# Altium schematic symbol library Regulator_Switching.SchLib: 1279 symbols (part 1 of 14)
Pins are listed as number, name and electrical type; pins without a type are passive.

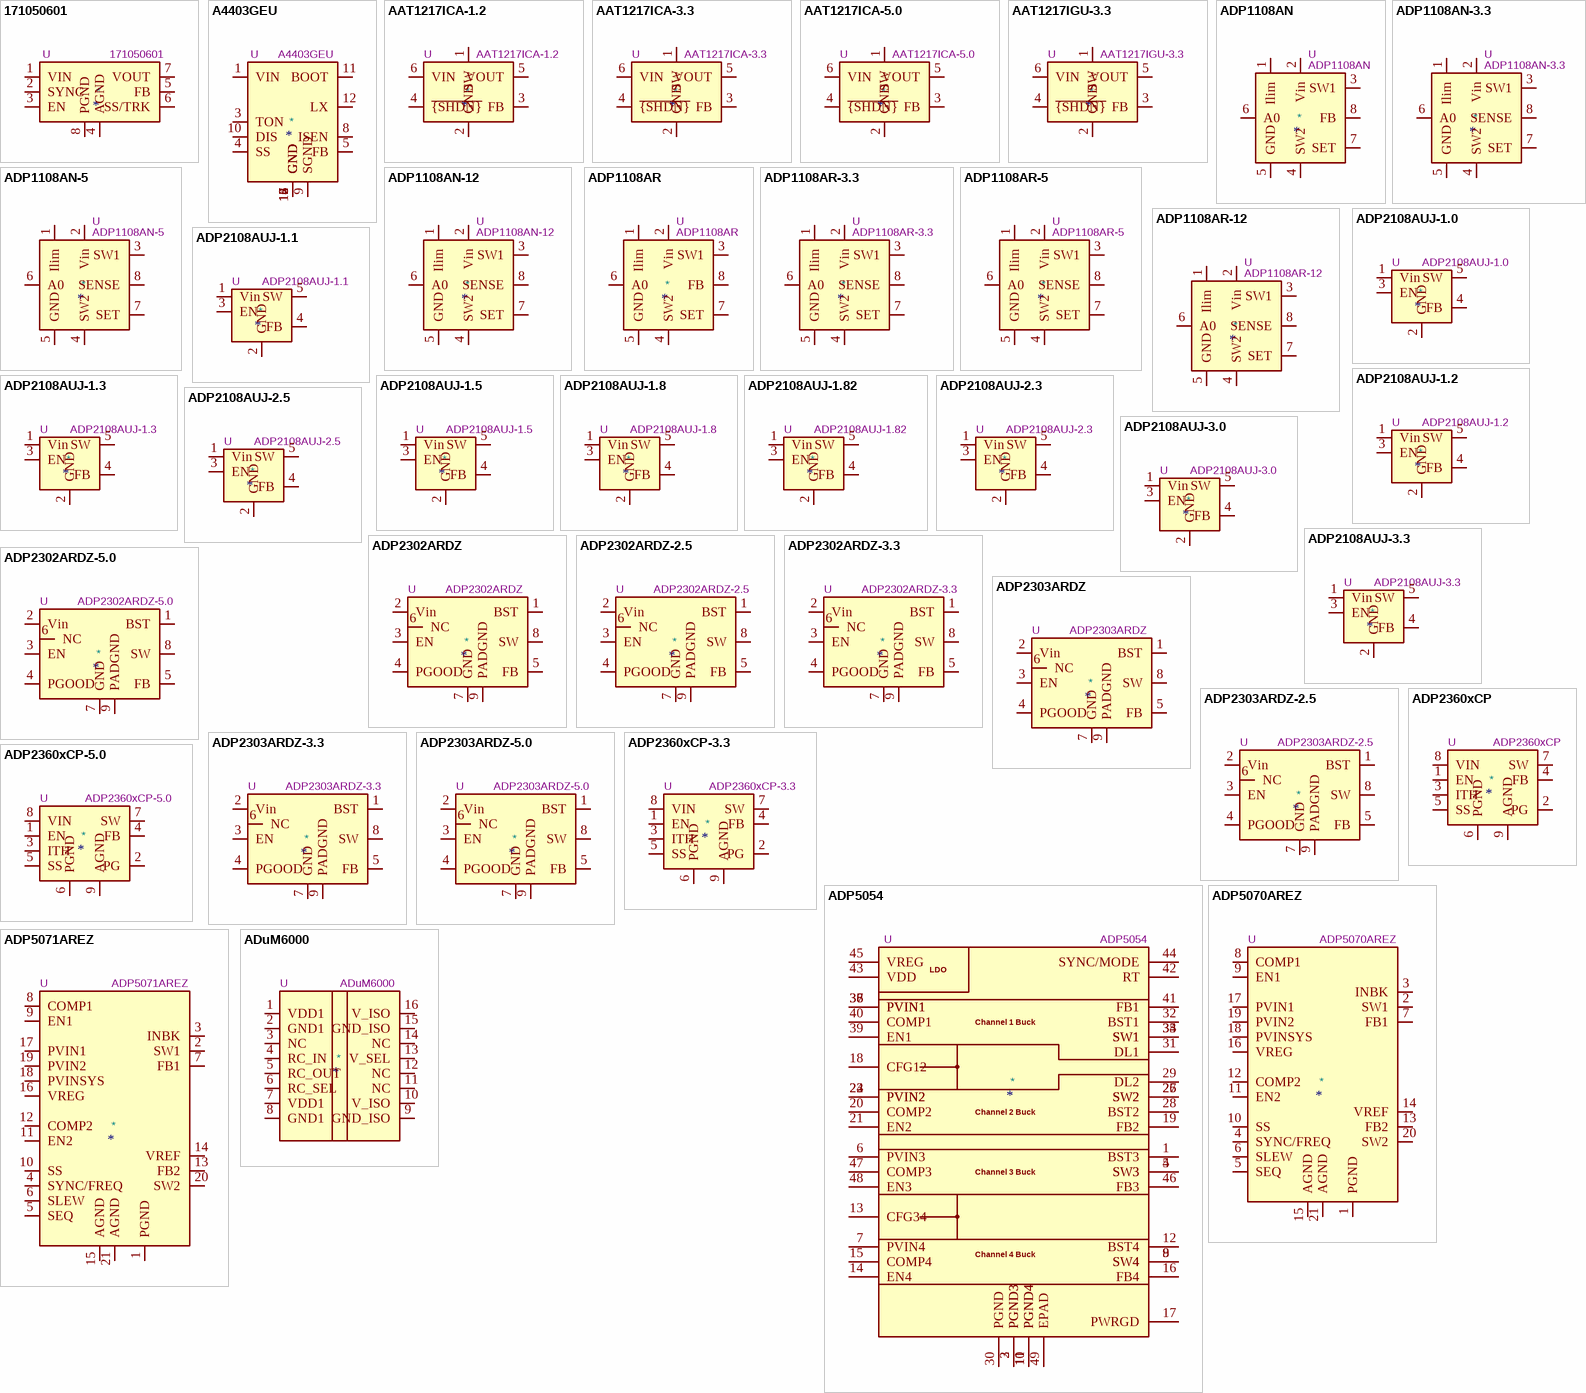
[diagram p0: symbols 171050601 to ADuM6000]

## 171050601
designator *  value 171050601  Reference: U
MagI3C Power Module, Variable Step Down Regulator Module, 6 to 36V Input Voltage, 0.8 to 6V, 5A Output, TO-263; ki_keywords: power module regulator; ki_fp_filters: TO*263*TabPin8*; Footprint: Package_TO_SOT_SMD:TO-263-7_TabPin8; Datasheet: https://katalog.we-online.de/pm/datasheet/171050601.pdf; Description_: MagI3C Power Module, Variable Step Down Regulator Module, 6 to 36V Input Voltage, 0.8 to 6V, 5A Output, TO-263
pins: 1 VIN, 2 SYNC, 3 EN, 4 AGND, 5 FB, 6 SS/TRK, 7 VOUT, 8 PGND

## A4403GEU
designator *  value A4403GEU  Reference: U
Valley current mode buck converter, 46V, 3A, up to 2MHz, QFN-16; ki_keywords: buck regulator adjustable; ki_fp_filters: QFN*1EP*4x4mm*P0.65mm*EP2.7x2.7mm*; Footprint: Package_DFN_QFN:QFN-16-1EP_4x4mm_P0.65mm_EP2.7x2.7mm; Datasheet: https://www.allegromicro.com/~/media/Files/Datasheets/A4403-Datasheet.ashx; Description_: Valley current mode buck converter, 46V, 3A, up to 2MHz, QFN-16
pins: 1 VIN, 2 GND, 3 TON, 4 SS, 5 FB, 6 GND, 7 GND, 8 ISEN, 9 SGND, 10 DIS, 11 BOOT, 12 LX, 13 GND, 14 GND, 15 GND, 16 GND, 17 GND

## AAT1217ICA-1.2
designator *  value AAT1217ICA-1.2  Reference: U
600mA, 2.5-5.5V, 1.2MHz, Micropower Synchronous Step-Up Converter, TSOT-23-6; ki_keywords: regulator step-up adjustable; ki_fp_filters: TSOT?23*; Footprint: Package_TO_SOT_SMD:TSOT-23-6; Datasheet: http://www.skyworksinc.com/uploads/documents/AAT1217_202050B.pdf; Description_: 600mA, 2.5-5.5V, 1.2MHz, Micropower Synchronous Step-Up Converter, TSOT-23-6
pins: 1 SW, 2 GND, 3 FB, 4 ~{{SHDN}}, 5 VOUT, 6 VIN

## AAT1217ICA-3.3
designator *  value AAT1217ICA-3.3  Reference: U
600mA, 3.3V, 1.2MHz, Micropower Synchronous Step-Up Converter, TSOT-23-6; ki_keywords: regulator step-up; ki_fp_filters: TSOT?23*; Footprint: Package_TO_SOT_SMD:TSOT-23-6; Datasheet: http://www.skyworksinc.com/uploads/documents/AAT1217_202050B.pdf; Description_: 600mA, 3.3V, 1.2MHz, Micropower Synchronous Step-Up Converter, TSOT-23-6
pins: 1 SW, 2 GND, 3 FB, 4 ~{{SHDN}}, 5 VOUT, 6 VIN

## AAT1217ICA-5.0
designator *  value AAT1217ICA-5.0  Reference: U
600mA, 5.0V, 1.2MHz, Micropower Synchronous Step-Up Converter, TSOT-23-6; ki_keywords: regulator step-up; ki_fp_filters: TSOT?23*; Footprint: Package_TO_SOT_SMD:TSOT-23-6; Datasheet: http://www.skyworksinc.com/uploads/documents/AAT1217_202050B.pdf; Description_: 600mA, 5.0V, 1.2MHz, Micropower Synchronous Step-Up Converter, TSOT-23-6
pins: 1 SW, 2 GND, 3 FB, 4 ~{{SHDN}}, 5 VOUT, 6 VIN

## AAT1217IGU-3.3
designator *  value AAT1217IGU-3.3  Reference: U
600mA, 3.3V, 1.2MHz, Micropower Synchronous Step-Up Converter, SOT-23-6; ki_keywords: regulator step-up; ki_fp_filters: SOT?23*; Footprint: Package_TO_SOT_SMD:SOT-23-6; Datasheet: http://www.skyworksinc.com/uploads/documents/AAT1217_202050B.pdf; Description_: 600mA, 3.3V, 1.2MHz, Micropower Synchronous Step-Up Converter, SOT-23-6
pins: 1 SW, 2 GND, 3 FB, 4 ~{{SHDN}}, 5 VOUT, 6 VIN

## ADP1108AN
designator *  value ADP1108AN  Reference: U
Micropower DC-DC converter, step-up or step-down operation, 2V-30Vin, adjustable output voltage, DIP-8; ki_keywords: switching buck boost converter step-down step-up; ki_fp_filters: DIP*W7.62mm*; Footprint: Package_DIP:DIP-8_W7.62mm; Datasheet: https://www.analog.com/media/en/technical-documentation/data-sheets/ADP1108.pdf; Description_: Micropower DC-DC converter, step-up or step-down operation, 2V-30Vin, adjustable output voltage, DIP-8
pins: 1 Ilim, 2 Vin, 3 SW1, 4 SW2, 5 GND, 6 A0, 7 SET, 8 FB

## ADP1108AN-3.3
designator *  value ADP1108AN-3.3  Reference: U
Micropower DC-DC converter, step-up or step-down operation, 2V-30Vin, 3.3V fixed output voltage, DIP-8; ki_keywords: switching buck boost converter step-down step-up; ki_fp_filters: DIP*W7.62mm*; Footprint: Package_DIP:DIP-8_W7.62mm; Datasheet: https://www.analog.com/media/en/technical-documentation/data-sheets/ADP1108.pdf; Description_: Micropower DC-DC converter, step-up or step-down operation, 2V-30Vin, 3.3V fixed output voltage, DIP-8
pins: 1 Ilim, 2 Vin, 3 SW1, 4 SW2, 5 GND, 6 A0, 7 SET, 8 SENSE

## ADP1108AN-5
designator *  value ADP1108AN-5  Reference: U
Micropower DC-DC converter, step-up or step-down operation, 2V-30Vin, 5V fixed output voltage, DIP-8; ki_keywords: switching buck boost converter step-down step-up; ki_fp_filters: DIP*W7.62mm*; Footprint: Package_DIP:DIP-8_W7.62mm; Datasheet: https://www.analog.com/media/en/technical-documentation/data-sheets/ADP1108.pdf; Description_: Micropower DC-DC converter, step-up or step-down operation, 2V-30Vin, 5V fixed output voltage, DIP-8
pins: 1 Ilim, 2 Vin, 3 SW1, 4 SW2, 5 GND, 6 A0, 7 SET, 8 SENSE

## ADP1108AN-12
designator *  value ADP1108AN-12  Reference: U
Micropower DC-DC converter, step-up or step-down operation, 2V-30Vin, 12V fixed output voltage, DIP-8; ki_keywords: switching buck boost converter step-down step-up; ki_fp_filters: DIP*W7.62mm*; Footprint: Package_DIP:DIP-8_W7.62mm; Datasheet: https://www.analog.com/media/en/technical-documentation/data-sheets/ADP1108.pdf; Description_: Micropower DC-DC converter, step-up or step-down operation, 2V-30Vin, 12V fixed output voltage, DIP-8
pins: 1 Ilim, 2 Vin, 3 SW1, 4 SW2, 5 GND, 6 A0, 7 SET, 8 SENSE

## ADP1108AR
designator *  value ADP1108AR  Reference: U
Micropower DC-DC converter, step-up or step-down operation, 2V-30Vin, adjustable output voltage, DIP-8; ki_keywords: switching buck boost converter step-down step-up; ki_fp_filters: SOIC*3.9x4.9mm*; Footprint: Package_SO:SOIC-8_3.9x4.9mm_P1.27mm; Datasheet: https://www.analog.com/media/en/technical-documentation/data-sheets/ADP1108.pdf; Description_: Micropower DC-DC converter, step-up or step-down operation, 2V-30Vin, adjustable output voltage, DIP-8
pins: 1 Ilim, 2 Vin, 3 SW1, 4 SW2, 5 GND, 6 A0, 7 SET, 8 FB

## ADP1108AR-3.3
designator *  value ADP1108AR-3.3  Reference: U
Micropower DC-DC converter, step-up or step-down operation, 2V-30Vin, 3.3V fixed output voltage, DIP-8; ki_keywords: switching buck boost converter step-down step-up; ki_fp_filters: SOIC*3.9x4.9mm*P1.27mm*; Footprint: Package_SO:SOIC-8_3.9x4.9mm_P1.27mm; Datasheet: https://www.analog.com/media/en/technical-documentation/data-sheets/ADP1108.pdf; Description_: Micropower DC-DC converter, step-up or step-down operation, 2V-30Vin, 3.3V fixed output voltage, DIP-8
pins: 1 Ilim, 2 Vin, 3 SW1, 4 SW2, 5 GND, 6 A0, 7 SET, 8 SENSE

## ADP1108AR-5
designator *  value ADP1108AR-5  Reference: U
Micropower DC-DC converter, step-up or step-down operation, 2V-30Vin, 5V fixed output voltage, DIP-8; ki_keywords: switching buck boost converter step-down step-up; ki_fp_filters: SOIC*3.9x4.9mm*P1.27mm*; Footprint: Package_SO:SOIC-8_3.9x4.9mm_P1.27mm; Datasheet: https://www.analog.com/media/en/technical-documentation/data-sheets/ADP1108.pdf; Description_: Micropower DC-DC converter, step-up or step-down operation, 2V-30Vin, 5V fixed output voltage, DIP-8
pins: 1 Ilim, 2 Vin, 3 SW1, 4 SW2, 5 GND, 6 A0, 7 SET, 8 SENSE

## ADP1108AR-12
designator *  value ADP1108AR-12  Reference: U
Micropower DC-DC converter, step-up or step-down operation, 2V-30Vin, 12V fixed output voltage, DIP-8; ki_keywords: switching buck boost converter step-down step-up; ki_fp_filters: SOIC*3.9x4.9mm*P1.27mm*; Footprint: Package_SO:SOIC-8_3.9x4.9mm_P1.27mm; Datasheet: https://www.analog.com/media/en/technical-documentation/data-sheets/ADP1108.pdf; Description_: Micropower DC-DC converter, step-up or step-down operation, 2V-30Vin, 12V fixed output voltage, DIP-8
pins: 1 Ilim, 2 Vin, 3 SW1, 4 SW2, 5 GND, 6 A0, 7 SET, 8 SENSE

## ADP2108AUJ-1.0
designator *  value ADP2108AUJ-1.0  Reference: U
3MHz switching bucK regulator, 600mA 1.0V output voltage,; ki_keywords: Voltage regulator switching buck fixed output analog; ki_fp_filters: TSOT?23*; Footprint: Package_TO_SOT_SMD:TSOT-23-5; Datasheet: https://www.analog.com/media/en/technical-documentation/data-sheets/ADP2108.pdf; Description_: 3MHz switching bucK regulator, 600mA 1.0V output voltage,
pins: 1 Vin, 2 GND, 3 EN, 4 FB, 5 SW

## ADP2108AUJ-1.1
designator *  value ADP2108AUJ-1.1  Reference: U
3MHz switching bucK regulator, 600mA 1.1V output voltage,; ki_keywords: Voltage regulator switching buck fixed output analog; ki_fp_filters: TSOT?23*; Footprint: Package_TO_SOT_SMD:TSOT-23-5; Datasheet: https://www.analog.com/media/en/technical-documentation/data-sheets/ADP2108.pdf; Description_: 3MHz switching bucK regulator, 600mA 1.1V output voltage,
pins: 1 Vin, 2 GND, 3 EN, 4 FB, 5 SW

## ADP2108AUJ-1.2
designator *  value ADP2108AUJ-1.2  Reference: U
3MHz switching bucK regulator, 600mA 1.2V output voltage,; ki_keywords: Voltage regulator switching buck fixed output analog; ki_fp_filters: TSOT?23*; Footprint: Package_TO_SOT_SMD:TSOT-23-5; Datasheet: https://www.analog.com/media/en/technical-documentation/data-sheets/ADP2108.pdf; Description_: 3MHz switching bucK regulator, 600mA 1.2V output voltage,
pins: 1 Vin, 2 GND, 3 EN, 4 FB, 5 SW

## ADP2108AUJ-1.3
designator *  value ADP2108AUJ-1.3  Reference: U
3MHz switching bucK regulator, 600mA 1.3V output voltage,; ki_keywords: Voltage regulator switching buck fixed output analog; ki_fp_filters: TSOT?23*; Footprint: Package_TO_SOT_SMD:TSOT-23-5; Datasheet: https://www.analog.com/media/en/technical-documentation/data-sheets/ADP2108.pdf; Description_: 3MHz switching bucK regulator, 600mA 1.3V output voltage,
pins: 1 Vin, 2 GND, 3 EN, 4 FB, 5 SW

## ADP2108AUJ-1.5
designator *  value ADP2108AUJ-1.5  Reference: U
3MHz switching bucK regulator, 600mA 1.5V output voltage,; ki_keywords: Voltage regulator switching buck fixed output analog; ki_fp_filters: TSOT?23*; Footprint: Package_TO_SOT_SMD:TSOT-23-5; Datasheet: https://www.analog.com/media/en/technical-documentation/data-sheets/ADP2108.pdf; Description_: 3MHz switching bucK regulator, 600mA 1.5V output voltage,
pins: 1 Vin, 2 GND, 3 EN, 4 FB, 5 SW

## ADP2108AUJ-1.8
designator *  value ADP2108AUJ-1.8  Reference: U
3MHz switching bucK regulator, 600mA 1.8V output voltage,; ki_keywords: Voltage regulator switching buck fixed output analog; ki_fp_filters: TSOT?23*; Footprint: Package_TO_SOT_SMD:TSOT-23-5; Datasheet: https://www.analog.com/media/en/technical-documentation/data-sheets/ADP2108.pdf; Description_: 3MHz switching bucK regulator, 600mA 1.8V output voltage,
pins: 1 Vin, 2 GND, 3 EN, 4 FB, 5 SW

## ADP2108AUJ-1.82
designator *  value ADP2108AUJ-1.82  Reference: U
3MHz switching bucK regulator, 600mA 1.82V output voltage,; ki_keywords: Voltage regulator switching buck fixed output analog; ki_fp_filters: TSOT?23*; Footprint: Package_TO_SOT_SMD:TSOT-23-5; Datasheet: https://www.analog.com/media/en/technical-documentation/data-sheets/ADP2108.pdf; Description_: 3MHz switching bucK regulator, 600mA 1.82V output voltage,
pins: 1 Vin, 2 GND, 3 EN, 4 FB, 5 SW

## ADP2108AUJ-2.3
designator *  value ADP2108AUJ-2.3  Reference: U
3MHz switching bucK regulator, 600mA 2.3V output voltage,; ki_keywords: Voltage regulator switching buck fixed output analog; ki_fp_filters: TSOT?23*; Footprint: Package_TO_SOT_SMD:TSOT-23-5; Datasheet: https://www.analog.com/media/en/technical-documentation/data-sheets/ADP2108.pdf; Description_: 3MHz switching bucK regulator, 600mA 2.3V output voltage,
pins: 1 Vin, 2 GND, 3 EN, 4 FB, 5 SW

## ADP2108AUJ-2.5
designator *  value ADP2108AUJ-2.5  Reference: U
3MHz switching bucK regulator, 600mA 2.5V output voltage,; ki_keywords: Voltage regulator switching buck fixed output analog; ki_fp_filters: TSOT?23*; Footprint: Package_TO_SOT_SMD:TSOT-23-5; Datasheet: https://www.analog.com/media/en/technical-documentation/data-sheets/ADP2108.pdf; Description_: 3MHz switching bucK regulator, 600mA 2.5V output voltage,
pins: 1 Vin, 2 GND, 3 EN, 4 FB, 5 SW

## ADP2108AUJ-3.0
designator *  value ADP2108AUJ-3.0  Reference: U
3MHz switching bucK regulator, 600mA 3.0V output voltage,; ki_keywords: Voltage regulator switching buck fixed output analog; ki_fp_filters: TSOT?23*; Footprint: Package_TO_SOT_SMD:TSOT-23-5; Datasheet: https://www.analog.com/media/en/technical-documentation/data-sheets/ADP2108.pdf; Description_: 3MHz switching bucK regulator, 600mA 3.0V output voltage,
pins: 1 Vin, 2 GND, 3 EN, 4 FB, 5 SW

## ADP2108AUJ-3.3
designator *  value ADP2108AUJ-3.3  Reference: U
3MHz switching bucK regulator, 600mA 3.3V output voltage,; ki_keywords: Voltage regulator switching buck fixed output analog; ki_fp_filters: TSOT?23*; Footprint: Package_TO_SOT_SMD:TSOT-23-5; Datasheet: https://www.analog.com/media/en/technical-documentation/data-sheets/ADP2108.pdf; Description_: 3MHz switching bucK regulator, 600mA 3.3V output voltage,
pins: 1 Vin, 2 GND, 3 EN, 4 FB, 5 SW

## ADP2302ARDZ
designator *  value ADP2302ARDZ  Reference: U
Nonsynchronous Step-Down Regulator 2 Amp Vout Adjustable SOIC-8; ki_fp_filters: SOIC*1EP*3.9x4.9mm*P1.27mm*; Footprint: Package_SO:SOIC-8-1EP_3.9x4.9mm_P1.27mm_EP2.29x3mm; Datasheet: https://www.analog.com/media/en/technical-documentation/data-sheets/ADP2302_2303.pdf; Description_: Nonsynchronous Step-Down Regulator 2 Amp Vout Adjustable SOIC-8; ki_keywords: Step-Down Regulator
pins: 1 BST, 2 Vin, 3 EN, 4 PGOOD, 5 FB, 6 NC, 7 GND, 8 SW, 9 PADGND

## ADP2302ARDZ-2.5
designator *  value ADP2302ARDZ-2.5  Reference: U
Nonsynchronous Step-Down Regulator 2 Amp Vout 2.5v SOIC-8; ki_fp_filters: SOIC*1EP*3.9x4.9mm*P1.27mm*; Footprint: Package_SO:SOIC-8-1EP_3.9x4.9mm_P1.27mm_EP2.29x3mm; Datasheet: https://www.analog.com/media/en/technical-documentation/data-sheets/ADP2302_2303.pdf; Description_: Nonsynchronous Step-Down Regulator 2 Amp Vout 2.5v SOIC-8; ki_keywords: Step-Down Regulator
pins: 1 BST, 2 Vin, 3 EN, 4 PGOOD, 5 FB, 6 NC, 7 GND, 8 SW, 9 PADGND

## ADP2302ARDZ-3.3
designator *  value ADP2302ARDZ-3.3  Reference: U
Nonsynchronous Step-Down Regulator 2 Amp Vout 3.3v SOIC-8; ki_fp_filters: SOIC*1EP*3.9x4.9mm*P1.27mm*; Footprint: Package_SO:SOIC-8-1EP_3.9x4.9mm_P1.27mm_EP2.29x3mm; Datasheet: https://www.analog.com/media/en/technical-documentation/data-sheets/ADP2302_2303.pdf; Description_: Nonsynchronous Step-Down Regulator 2 Amp Vout 3.3v SOIC-8; ki_keywords: Step-Down Regulator
pins: 1 BST, 2 Vin, 3 EN, 4 PGOOD, 5 FB, 6 NC, 7 GND, 8 SW, 9 PADGND

## ADP2302ARDZ-5.0
designator *  value ADP2302ARDZ-5.0  Reference: U
Nonsynchronous Step-Down Regulator 2 Amp Vout 5.0v SOIC-8; ki_fp_filters: SOIC*1EP*3.9x4.9mm*P1.27mm*; Footprint: Package_SO:SOIC-8-1EP_3.9x4.9mm_P1.27mm_EP2.29x3mm; Datasheet: https://www.analog.com/media/en/technical-documentation/data-sheets/ADP2302_2303.pdf; Description_: Nonsynchronous Step-Down Regulator 2 Amp Vout 5.0v SOIC-8; ki_keywords: Step-Down Regulator
pins: 1 BST, 2 Vin, 3 EN, 4 PGOOD, 5 FB, 6 NC, 7 GND, 8 SW, 9 PADGND

## ADP2303ARDZ
designator *  value ADP2303ARDZ  Reference: U
Nonsynchronous Step-Down Regulator 3 Amp Vout Adjustable SOIC-8; ki_fp_filters: SOIC*1EP*3.9x4.9mm*P1.27mm*; Footprint: Package_SO:SOIC-8-1EP_3.9x4.9mm_P1.27mm_EP2.29x3mm; Datasheet: https://www.analog.com/media/en/technical-documentation/data-sheets/ADP2302_2303.pdf; Description_: Nonsynchronous Step-Down Regulator 3 Amp Vout Adjustable SOIC-8; ki_keywords: Step-Down Regulator
pins: 1 BST, 2 Vin, 3 EN, 4 PGOOD, 5 FB, 6 NC, 7 GND, 8 SW, 9 PADGND

## ADP2303ARDZ-2.5
designator *  value ADP2303ARDZ-2.5  Reference: U
Nonsynchronous Step-Down Regulator 3 Amp Vout 2.5v SOIC-8; ki_fp_filters: SOIC*1EP*3.9x4.9mm*P1.27mm*; Footprint: Package_SO:SOIC-8-1EP_3.9x4.9mm_P1.27mm_EP2.29x3mm; Datasheet: https://www.analog.com/media/en/technical-documentation/data-sheets/ADP2302_2303.pdf; Description_: Nonsynchronous Step-Down Regulator 3 Amp Vout 2.5v SOIC-8; ki_keywords: Step-Down Regulator
pins: 1 BST, 2 Vin, 3 EN, 4 PGOOD, 5 FB, 6 NC, 7 GND, 8 SW, 9 PADGND

## ADP2303ARDZ-3.3
designator *  value ADP2303ARDZ-3.3  Reference: U
Nonsynchronous Step-Down Regulator 3 Amp Vout 3.3v SOIC-8; ki_fp_filters: SOIC*1EP*3.9x4.9mm*P1.27mm*; Footprint: Package_SO:SOIC-8-1EP_3.9x4.9mm_P1.27mm_EP2.29x3mm; Datasheet: https://www.analog.com/media/en/technical-documentation/data-sheets/ADP2302_2303.pdf; Description_: Nonsynchronous Step-Down Regulator 3 Amp Vout 3.3v SOIC-8; ki_keywords: Step-Down Regulator
pins: 1 BST, 2 Vin, 3 EN, 4 PGOOD, 5 FB, 6 NC, 7 GND, 8 SW, 9 PADGND

## ADP2303ARDZ-5.0
designator *  value ADP2303ARDZ-5.0  Reference: U
Nonsynchronous Step-Down Regulator 3 Amp Vout 5.0v SOIC-8; ki_fp_filters: SOIC*1EP*3.9x4.9mm*P1.27mm*; Footprint: Package_SO:SOIC-8-1EP_3.9x4.9mm_P1.27mm_EP2.29x3mm; Datasheet: https://www.analog.com/media/en/technical-documentation/data-sheets/ADP2302_2303.pdf; Description_: Nonsynchronous Step-Down Regulator 3 Amp Vout 5.0v SOIC-8; ki_keywords: Step-Down Regulator
pins: 1 BST, 2 Vin, 3 EN, 4 PGOOD, 5 FB, 6 NC, 7 GND, 8 SW, 9 PADGND

## ADP2360xCP
designator *  value ADP2360xCP  Reference: U
High Efficiency Buck Regulator, Vin 60V, Vout Adjustable, 50mA, LFCSP-8; ki_keywords: Step-Down Buck Regulator; ki_fp_filters: LFCSP*1EP*3x3mm*P0.65mm*; Footprint: Package_CSP:LFCSP-WD-8-1EP_3x3mm_P0.65mm_EP1.6x2.44mm; Datasheet: https://www.analog.com/media/en/technical-documentation/data-sheets/ADP2360.pdf; Description_: High Efficiency Buck Regulator, Vin 60V, Vout Adjustable, 50mA, LFCSP-8
pins: 1 EN, 2 PG, 3 ITH, 4 FB, 5 SS, 6 PGND, 7 SW, 8 VIN, 9 AGND

## ADP2360xCP-3.3
designator *  value ADP2360xCP-3.3  Reference: U
High Efficiency Buck Regulator, Vin 60V, Vout 3.3V, 50mA, LFCSP-8; ki_keywords: Step-Down Buck Regulator; ki_fp_filters: LFCSP*1EP*3x3mm*P0.65mm*; Footprint: Package_CSP:LFCSP-WD-8-1EP_3x3mm_P0.65mm_EP1.6x2.44mm; Datasheet: https://www.analog.com/media/en/technical-documentation/data-sheets/ADP2360.pdf; Description_: High Efficiency Buck Regulator, Vin 60V, Vout 3.3V, 50mA, LFCSP-8
pins: 1 EN, 2 PG, 3 ITH, 4 FB, 5 SS, 6 PGND, 7 SW, 8 VIN, 9 AGND

## ADP2360xCP-5.0
designator *  value ADP2360xCP-5.0  Reference: U
High Efficiency Buck Regulator, Vin 60V, Vout 5.0V, 50mA, LFCSP-8; ki_keywords: Step-Down Buck Regulator; ki_fp_filters: LFCSP*1EP*3x3mm*P0.65mm*; Footprint: Package_CSP:LFCSP-WD-8-1EP_3x3mm_P0.65mm_EP1.6x2.44mm; Datasheet: https://www.analog.com/media/en/technical-documentation/data-sheets/ADP2360.pdf; Description_: High Efficiency Buck Regulator, Vin 60V, Vout 5.0V, 50mA, LFCSP-8
pins: 1 EN, 2 PG, 3 ITH, 4 FB, 5 SS, 6 PGND, 7 SW, 8 VIN, 9 AGND

## ADP5054
designator *  value ADP5054  Reference: U
250kHz to 2MHz, 6A/6A/2A/2A Quad Buck Regulator, -40 to +125C, QFN-48; ki_keywords: quad regulator dcdc buck synchronizable parallel; ki_fp_filters: QFN*1EP*7x7mm*P0.5mm*; Footprint: Package_DFN_QFN:QFN-48-1EP_7x7mm_P0.5mm_EP5.15x5.15mm; Datasheet: https://www.analog.com/media/en/technical-documentation/data-sheets/ADP5054.pdf; Description_: 250kHz to 2MHz, 6A/6A/2A/2A Quad Buck Regulator, -40 to +125C, QFN-48
pins: 1 BST3, 2 PGND3, 3 PGND3, 4 SW3, 5 SW3, 6 PVIN3, 7 PVIN4, 8 SW4, 9 SW4, 10 PGND4, 11 PGND4, 12 BST4, 13 CFG34, 14 EN4, 15 COMP4, 16 FB4, 17 PWRGD, 18 CFG12, 19 FB2, 20 COMP2, 21 EN2, 22 PVIN2, 23 PVIN2, 24 PVIN2, 25 SW2, 26 SW2, 27 SW2, 28 BST2, 29 DL2, 30 PGND, 31 DL1, 32 BST1, 33 SW1, 34 SW1, 35 SW1, 36 PVIN1, 37 PVIN1, 38 PVIN1, 39 EN1, 40 COMP1, 41 FB1, 42 RT, 43 VDD, 44 SYNC/MODE, 45 VREG, 46 FB3, 47 COMP3, 48 EN3, 49 EPAD
text: LDO; Channel 1 Buck; Channel 2 Buck; Channel 3 Buck; Channel 4 Buck

## ADP5070AREZ
designator *  value ADP5070AREZ  Reference: U
1A/0.6A DC-to-DC Switching Regulator with Independent Positive and Negative Outputs; ki_keywords: voltage regulator switching inverter double positive negative; ki_fp_filters: ETSSOP*1EP?4.4x6.5mm?P0.65mm?EP3x4.2mm*; Footprint: Package_SO:ETSSOP-20-1EP_4.4x6.5mm_P0.65mm_EP3x4.2mm; Datasheet: https://www.analog.com/media/en/technical-documentation/data-sheets/ADP5070.pdf; Description_: 1A/0.6A DC-to-DC Switching Regulator with Independent Positive and Negative Outputs
pins: 1 PGND, 2 SW1, 3 INBK, 4 SYNC/FREQ, 5 SEQ, 6 SLEW, 7 FB1, 8 COMP1, 9 EN1, 10 SS, 11 EN2, 12 COMP2, 13 FB2, 14 VREF, 15 AGND, 16 VREG, 17 PVIN1, 18 PVINSYS, 19 PVIN2, 20 SW2, 21 AGND

## ADP5071AREZ
designator *  value ADP5071AREZ  Reference: U
2A/1.2A DC-to-DC Switching Regulator with Independent Positive and Negative Outputs; ki_keywords: voltage regulator switching inverter double positive negative; ki_fp_filters: ETSSOP*1EP?4.4x6.5mm?P0.65mm?EP3x4.2mm*; Footprint: Package_SO:ETSSOP-20-1EP_4.4x6.5mm_P0.65mm_EP3x4.2mm; Datasheet: https://www.analog.com/media/en/technical-documentation/data-sheets/ADP5071.pdf; Description_: 2A/1.2A DC-to-DC Switching Regulator with Independent Positive and Negative Outputs
pins: 1 PGND, 2 SW1, 3 INBK, 4 SYNC/FREQ, 5 SEQ, 6 SLEW, 7 FB1, 8 COMP1, 9 EN1, 10 SS, 11 EN2, 12 COMP2, 13 FB2, 14 VREF, 15 AGND, 16 VREG, 17 PVIN1, 18 PVINSYS, 19 PVIN2, 20 SW2, 21 AGND

## ADuM6000
designator *  value ADuM6000  Reference: U
Isolated 5 kV DC-to-DC Converter; ki_keywords: Isolated DC-to-DC Converter 5kV; ki_fp_filters: SOIC*7.5x12.8mm*P1.27mm* SOIC*7.5x10.3mm*P1.27mm*; Datasheet: https://www.analog.com/media/en/technical-documentation/data-sheets/ADuM6000.PDF; Description_: Isolated 5 kV DC-to-DC Converter
pins: 1 VDD1, 2 GND1, 3 NC, 4 RC_IN, 5 RC_OUT, 6 RC_SEL, 7 VDD1, 8 GND1, 9 GND_ISO, 10 V_ISO, 11 NC, 12 NC, 13 V_SEL, 14 NC, 15 GND_ISO, 16 V_ISO

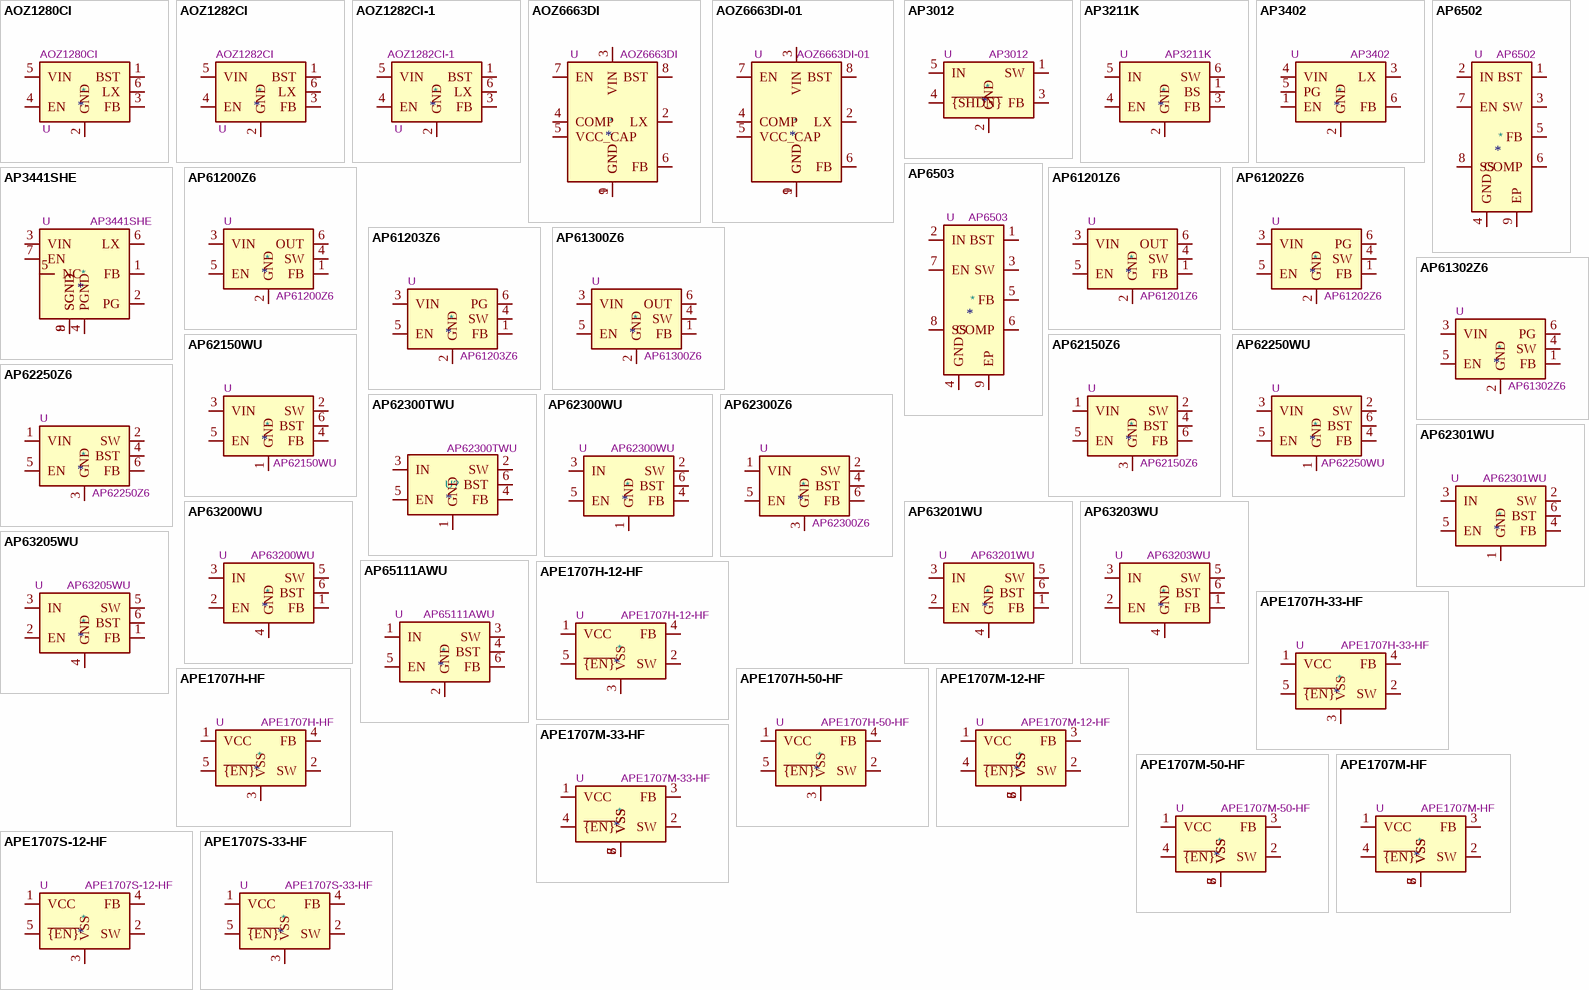
[diagram p1: symbols AOZ1280CI to APE1707S-33-HF]

## AOZ1280CI
designator *  value AOZ1280CI  Reference: U
1.2 A Simple Buck Regulator, 3-26V input, 1.5Mhz; ki_keywords: switching buck converter; ki_fp_filters: SOT?23*; Footprint: Package_TO_SOT_SMD:SOT-23-6; Datasheet: http://aosmd.com/res/data_sheets/AOZ1280CI.pdf; Description_: 1.2 A Simple Buck Regulator, 3-26V input, 1.5Mhz
pins: 1 BST, 2 GND, 3 FB, 4 EN, 5 VIN, 6 LX

## AOZ1282CI
designator *  value AOZ1282CI  Reference: U
1.2 A Simple Buck Regulator, 4.5-36V input, 450kHz; ki_keywords: switching buck converter; ki_fp_filters: SOT?23*; Footprint: Package_TO_SOT_SMD:SOT-23-6; Datasheet: http://aosmd.com/res/data_sheets/AOZ1282CI.pdf; Description_: 1.2 A Simple Buck Regulator, 4.5-36V input, 450kHz
pins: 1 BST, 2 GND, 3 FB, 4 EN, 5 VIN, 6 LX

## AOZ1282CI-1
designator *  value AOZ1282CI-1  Reference: U
600 mA Simple Buck Regulator, 4.5-36V input, 1MHz; ki_keywords: switching buck converter; ki_fp_filters: SOT?23*; Footprint: Package_TO_SOT_SMD:SOT-23-6; Datasheet: http://www.aosmd.com/res/data_sheets/AOZ1282CI-1.pdf; Description_: 600 mA Simple Buck Regulator, 4.5-36V input, 1MHz
pins: 1 BST, 2 GND, 3 FB, 4 EN, 5 VIN, 6 LX

## AOZ6663DI
designator *  value AOZ6663DI  Reference: U
3A Buck Regulator, 4.5-18V input, 750kHz, pulse energy mode on light load, DFN-8; ki_keywords: switching buck converter; ki_fp_filters: *DFN*1EP*3x3mm*P0.65mm*; Footprint: Package_DFN_QFN:AO_AOZ666xDI_DFN-8-1EP_3x3mm_P0.65mm_EP1.25x2.7mm; Datasheet: http://aosmd.com/res/data_sheets/AOZ6663DI.pdf; Description_: 3A Buck Regulator, 4.5-18V input, 750kHz, pulse energy mode on light load, DFN-8
pins: 1 GND, 2 LX, 3 VIN, 4 COMP, 5 VCC_CAP, 6 FB, 7 EN, 8 BST, 9 GND

## AOZ6663DI-01
designator *  value AOZ6663DI-01  Reference: U
3A Buck Regulator, 4.5-18V input, 750kHz,  fixed frequency on light load <= 4V, pulse energy mode on light load > 4V,DFN-8; ki_keywords: switching buck converter; ki_fp_filters: *DFN*1EP*3x3mm*P0.65mm*; Footprint: Package_DFN_QFN:AO_AOZ666xDI_DFN-8-1EP_3x3mm_P0.65mm_EP1.25x2.7mm; Datasheet: http://aosmd.com/res/data_sheets/AOZ6663DI.pdf; Description_: 3A Buck Regulator, 4.5-18V input, 750kHz,  fixed frequency on light load <= 4V, pulse energy mode on light load > 4V,DFN-8
pins: 1 GND, 2 LX, 3 VIN, 4 COMP, 5 VCC_CAP, 6 FB, 7 EN, 8 BST, 9 GND

## AP3012
designator *  value AP3012  Reference: U
500mA, Adjustable Step-Up Voltage Regulator, 1.5MHz Frequency, SOT-23-5; ki_keywords: Step-Up Boost Voltage Regulator; ki_fp_filters: SOT?23*; Footprint: Package_TO_SOT_SMD:SOT-23-5; Datasheet: https://www.diodes.com/assets/Datasheets/AP3012.pdf; Description_: 500mA, Adjustable Step-Up Voltage Regulator, 1.5MHz Frequency, SOT-23-5
pins: 1 SW, 2 GND, 3 FB, 4 ~{{SHDN}}, 5 IN

## AP3211K
designator *  value AP3211K  Reference: U
1.5A, Adjustable Step-Down Voltage Regulator, 1.4MHz Frequency, Vin=4.5..18V, Vout=0.81..15V, SOT-23-6; ki_keywords: Step-Down PWM buck Voltage Regulator; ki_fp_filters: SOT?23*; Footprint: Package_TO_SOT_SMD:SOT-23-6; Datasheet: https://www.diodes.com/assets/Datasheets/AP3211.pdf; Description_: 1.5A, Adjustable Step-Down Voltage Regulator, 1.4MHz Frequency, Vin=4.5..18V, Vout=0.81..15V, SOT-23-6
pins: 1 BS, 2 GND, 3 FB, 4 EN, 5 IN, 6 SW

## AP3402
designator *  value AP3402  Reference: U
1.0MHz 2A Step-Down DC-DC Buck Converter, TSOT-23-6; ki_keywords: buck switching converter; ki_fp_filters: TSOT?23*; Footprint: Package_TO_SOT_SMD:TSOT-23-6; Datasheet: https://www.diodes.com/assets/Datasheets/AP3402.pdf; Description_: 1.0MHz 2A Step-Down DC-DC Buck Converter, TSOT-23-6
pins: 1 EN, 2 GND, 3 LX, 4 VIN, 5 PG, 6 FB

## AP3441SHE
designator *  value AP3441SHE  Reference: U
3A step-Down DC-DC 1Mhz buck converter, Input 2.7 to 5.5V, Output: 0.6 to V_{IN} , DFN-8; ki_keywords: Diodes; ki_fp_filters: DFN*EP?2x2mm?P0.5mm?EP0.9x1.7mm*; Footprint: Package_DFN_QFN:DFN-8-1EP_2x2mm_P0.5mm_EP0.9x1.7mm; Datasheet: https://www.diodes.com/assets/Datasheets/AP3441-L.pdf; Description_: 3A step-Down DC-DC 1Mhz buck converter, Input 2.7 to 5.5V, Output: 0.6 to V_{IN} , DFN-8
pins: 1 FB, 2 PG, 3 VIN, 4 PGND, 5 NC, 6 LX, 7 EN, 8 SGND, 9 SGND

## AP6502
designator *  value AP6502  Reference: U
340kHz 18V 2A Synchronous DC/DC Buck Converter; ki_keywords: buck switching converter; ki_fp_filters: Diodes_SO-8EP*; Datasheet: https://www.diodes.com/assets/Datasheets/AP6502.pdf; Description_: 340kHz 18V 2A Synchronous DC/DC Buck Converter
pins: 1 BST, 2 IN, 3 SW, 4 GND, 5 FB, 6 COMP, 7 EN, 8 SS, 9 EP

## AP6503
designator *  value AP6503  Reference: U
340kHz 23V 3A Synchonous DC/DC Buck Converter; ki_keywords: buck switching converter; ki_fp_filters: Diodes_SO-8EP*; Datasheet: https://www.diodes.com/assets/Datasheets/AP6503.pdf; Description_: 340kHz 23V 3A Synchonous DC/DC Buck Converter
pins: 1 BST, 2 IN, 3 SW, 4 GND, 5 FB, 6 COMP, 7 EN, 8 SS, 9 EP

## AP61200Z6
designator *  value AP61200Z6  Reference: U
2.3V-5.5V input voltage, 0.6V-3.6V adjustable output voltage, 2A output current, Low IQ Synchronous Buck Converter, Pulse Frequency Modulation, SOT-563; ki_keywords: 2.2MHz PFM DC/DC; ki_fp_filters: SOT?563*; Footprint: Package_TO_SOT_SMD:SOT-563; Datasheet: https://www.diodes.com/datasheet/download/AP61200+AP61201+AP61202+AP61203.pdf; Description_: 2.3V-5.5V input voltage, 0.6V-3.6V adjustable output voltage, 2A output current, Low IQ Synchronous Buck Converter, Pulse Frequency Modulation, SOT-563
pins: 1 FB, 2 GND, 3 VIN, 4 SW, 5 EN, 6 OUT

## AP61201Z6
designator *  value AP61201Z6  Reference: U
2.3V-5.5V input voltage, 0.6V-3.6V adjustable output voltage, 2A output current, Low IQ Synchronous Buck Converter, Force Pulse Witdth Modulation, SOT-563; ki_keywords: 2.2MHz PWM DC/DC; ki_fp_filters: SOT?563*; Footprint: Package_TO_SOT_SMD:SOT-563; Datasheet: https://www.diodes.com/datasheet/download/AP61200+AP61201+AP61202+AP61203.pdf; Description_: 2.3V-5.5V input voltage, 0.6V-3.6V adjustable output voltage, 2A output current, Low IQ Synchronous Buck Converter, Force Pulse Witdth Modulation, SOT-563
pins: 1 FB, 2 GND, 3 VIN, 4 SW, 5 EN, 6 OUT

## AP61202Z6
designator *  value AP61202Z6  Reference: U
2.3V-5.5V input voltage, 0.6V-3.6V adjustable output voltage, 2A output current, Low IQ Synchronous Buck Converter, Power Good Indicator, Pulse Frequency Modulation, SOT-563; ki_keywords: 2.2MHz PFM DC/DC; ki_fp_filters: SOT?563*; Footprint: Package_TO_SOT_SMD:SOT-563; Datasheet: https://www.diodes.com/datasheet/download/AP61200+AP61201+AP61202+AP61203.pdf; Description_: 2.3V-5.5V input voltage, 0.6V-3.6V adjustable output voltage, 2A output current, Low IQ Synchronous Buck Converter, Power Good Indicator, Pulse Frequency Modulation, SOT-563
pins: 1 FB, 2 GND, 3 VIN, 4 SW, 5 EN, 6 PG

## AP61203Z6
designator *  value AP61203Z6  Reference: U
2.3V-5.5V input voltage, 0.6V-3.6V adjustable output voltage, 2A output current, Low IQ Synchronous Buck Converter, Power Good Indicator, Force Pulse Width Modulation, SOT-563; ki_keywords: 2.2MHz PWM DC/DC; ki_fp_filters: SOT?563*; Footprint: Package_TO_SOT_SMD:SOT-563; Datasheet: https://www.diodes.com/datasheet/download/AP61200+AP61201+AP61202+AP61203.pdf; Description_: 2.3V-5.5V input voltage, 0.6V-3.6V adjustable output voltage, 2A output current, Low IQ Synchronous Buck Converter, Power Good Indicator, Force Pulse Width Modulation, SOT-563
pins: 1 FB, 2 GND, 3 VIN, 4 SW, 5 EN, 6 PG

## AP61300Z6
designator *  value AP61300Z6  Reference: U
2.4V-5.5V input voltage, 0.6V-3.6V adjustable output voltage, 3A output current, Low IQ Synchronous Buck Converter, PFM/PWM, SOT-563; ki_keywords: 2.2MHz PFM/PWM DC/DC AP61300QZ6; ki_fp_filters: SOT?563*; Footprint: Package_TO_SOT_SMD:SOT-563; Datasheet: https://www.diodes.com/datasheet/download/AP61300%2FAP61302.pdf; Description_: 2.4V-5.5V input voltage, 0.6V-3.6V adjustable output voltage, 3A output current, Low IQ Synchronous Buck Converter, PFM/PWM, SOT-563
pins: 1 FB, 2 GND, 3 VIN, 4 SW, 5 EN, 6 OUT

## AP61302Z6
designator *  value AP61302Z6  Reference: U
2.4V-5.5V input voltage, 0.6V-3.6V adjustable output voltage, 3A output current, Low IQ Synchronous Buck Converter, PFM/PWM, Power Good Indicator, SOT-563; ki_keywords: 2.2MHz PFM/PWM DC/DC AP61302QZ6; ki_fp_filters: SOT?563*; Footprint: Package_TO_SOT_SMD:SOT-563; Datasheet: https://www.diodes.com/datasheet/download/AP61300%2FAP61302.pdf; Description_: 2.4V-5.5V input voltage, 0.6V-3.6V adjustable output voltage, 3A output current, Low IQ Synchronous Buck Converter, PFM/PWM, Power Good Indicator, SOT-563
pins: 1 FB, 2 GND, 3 VIN, 4 SW, 5 EN, 6 PG

## AP62150WU
designator *  value AP62150WU  Reference: U
1.5A, 1.3MHz Buck DC/DC Converter, 4.2V-18V input voltage, 0.8V-7V adjustable output voltage, TSOT-23-6; ki_keywords: 1.5A 1.3MHz PWM Buck DC/DC; ki_fp_filters: TSOT?23?6*; Footprint: Package_TO_SOT_SMD:TSOT-23-6; Datasheet: https://www.diodes.com/assets/Datasheets/AP62150.pdf; Description_: 1.5A, 1.3MHz Buck DC/DC Converter, 4.2V-18V input voltage, 0.8V-7V adjustable output voltage, TSOT-23-6
pins: 1 GND, 2 SW, 3 VIN, 4 FB, 5 EN, 6 BST

## AP62150Z6
designator *  value AP62150Z6  Reference: U
1.5A, 1.3MHz Buck DC/DC Converter, adjustable output voltage, SOT-563; ki_keywords: 1.5A 1.3MHz PWM Buck DC/DC; ki_fp_filters: SOT?563*; Footprint: Package_TO_SOT_SMD:SOT-563; Datasheet: https://www.diodes.com/assets/Datasheets/AP62150.pdf; Description_: 1.5A, 1.3MHz Buck DC/DC Converter, adjustable output voltage, SOT-563
pins: 1 VIN, 2 SW, 3 GND, 4 BST, 5 EN, 6 FB

## AP62250WU
designator *  value AP62250WU  Reference: U
2.5A, 1.3MHz Buck DC/DC Converter, 4.2V-18V input voltage, 0.8V-7V adjustable output voltage, TSOT-23-6; ki_keywords: 2.5A 1.3MHz PWM Buck DC/DC; ki_fp_filters: TSOT?23?6*; Footprint: Package_TO_SOT_SMD:TSOT-23-6; Datasheet: https://www.diodes.com/assets/Datasheets/AP62250.pdf; Description_: 2.5A, 1.3MHz Buck DC/DC Converter, 4.2V-18V input voltage, 0.8V-7V adjustable output voltage, TSOT-23-6
pins: 1 GND, 2 SW, 3 VIN, 4 FB, 5 EN, 6 BST

## AP62250Z6
designator *  value AP62250Z6  Reference: U
2.5A, 1.3MHz Buck DC/DC Converter, adjustable output voltage, SOT-563; ki_keywords: 2.5A 1.3MHz PWM Buck DC/DC; ki_fp_filters: SOT?563*; Footprint: Package_TO_SOT_SMD:SOT-563; Datasheet: https://www.diodes.com/assets/Datasheets/AP62250.pdf; Description_: 2.5A, 1.3MHz Buck DC/DC Converter, adjustable output voltage, SOT-563
pins: 1 VIN, 2 SW, 3 GND, 4 BST, 5 EN, 6 FB

## AP62300TWU
designator U?  value AP62300TWU
3A, 750kHz Buck DC/DC Converter, PFM for light load efficiency, 4.2V-18V input voltage, 0.8V-7V adjustable output voltage, TSOT-23-6; Manufacturer: Diodes Inc.; Manufacturer Part Number: AP62300TWU-7; ki_keywords: 3A Buck DC/DC; ki_fp_filters: TSOT?23*; Max Supply Voltage: 18V; Max Output Voltage: 7V; Min Input Voltage: 4.2V; Min Output Voltage: 800mV; Nominal Supply Voltage: 12V; Number of Circuits: 1; Footprint: Package_TO_SOT_SMD:TSOT-23-6; Datasheet: https://www.diodes.com/assets/Datasheets/AP62300_AP62301_AP62300T.pdf; Description_: 3A, 750kHz Buck DC/DC Converter, PFM for light load efficiency, 4.2V-18V input voltage, 0.8V-7V adjustable output voltage, TSOT-23-6; Category: Voltage Regulators - Switching; China RoHS: Compliant; Height - Seated (Max): 1mm; Length: 2.9mm; Lifecycle Status: Production; Max Operating Temperature: 85°C; Max Output current: 3A; Max Switching Frequency: 750kHz; Min Operating Temperature: -40°C; Number of Terminals: 6; REACH SVHC: Yes; RoHS: Compliant; Terminal Pitch: 950µm; Topology: Buck; Width: 1.6mm; Supplier 1: Mouser; Supplier Part Number 1: 621-AP62300TWU-7; Supplier Packaging 1: Tape & Reel; Supplier Unit Price 1: $0.30; Supplier Location 1: US
footprint TSOT-26-6
pins: 1 GND, 2 SW, 3 IN, 4 FB, 5 EN, 6 BST

## AP62300WU
designator *  value AP62300WU  Reference: U
3A, 750kHz Buck DC/DC Converter, PFM for light load efficiency, 4.2V-18V input voltage, 0.8V-7V adjustable output voltage, TSOT-23-6; ki_keywords: 3A Buck DC/DC; ki_fp_filters: TSOT?23*; Footprint: Package_TO_SOT_SMD:TSOT-23-6; Datasheet: https://www.diodes.com/assets/Datasheets/AP62300_AP62301_AP62300T.pdf; Description_: 3A, 750kHz Buck DC/DC Converter, PFM for light load efficiency, 4.2V-18V input voltage, 0.8V-7V adjustable output voltage, TSOT-23-6
pins: 1 GND, 2 SW, 3 IN, 4 FB, 5 EN, 6 BST

## AP62300Z6
designator *  value AP62300Z6  Reference: U
3A, 1.3MHz Buck DC/DC Converter, adjustable output voltage, SOT-563; ki_keywords: 3A 1.3MHz PWM Buck DC/DC; ki_fp_filters: SOT?563*; Footprint: Package_TO_SOT_SMD:SOT-563; Datasheet: https://www.diodes.com/assets/Datasheets/AP62300_AP62301_AP62300T.pdf; Description_: 3A, 1.3MHz Buck DC/DC Converter, adjustable output voltage, SOT-563
pins: 1 VIN, 2 SW, 3 GND, 4 BST, 5 EN, 6 FB

## AP62301WU
designator *  value AP62301WU  Reference: U
3A, 750kHz Buck DC/DC Converter, 4.2V-18V input voltage, 0.8V-7V adjustable output voltage, TSOT-23-6; ki_keywords: 3A Buck DC/DC; ki_fp_filters: TSOT?23*; Footprint: Package_TO_SOT_SMD:TSOT-23-6; Datasheet: https://www.diodes.com/assets/Datasheets/AP62300_AP62301_AP62300T.pdf; Description_: 3A, 750kHz Buck DC/DC Converter, 4.2V-18V input voltage, 0.8V-7V adjustable output voltage, TSOT-23-6
pins: 1 GND, 2 SW, 3 IN, 4 FB, 5 EN, 6 BST

## AP63200WU
designator *  value AP63200WU  Reference: U
2A, 500kHz Buck DC/DC Converter, adjustable output voltage, TSOT-23-6; ki_keywords: 2A Buck DC/DC; ki_fp_filters: TSOT?23*; Footprint: Package_TO_SOT_SMD:TSOT-23-6; Datasheet: https://www.diodes.com/assets/Datasheets/AP63200-AP63201-AP63203-AP63205.pdf; Description_: 2A, 500kHz Buck DC/DC Converter, adjustable output voltage, TSOT-23-6
pins: 1 FB, 2 EN, 3 IN, 4 GND, 5 SW, 6 BST

## AP63201WU
designator *  value AP63201WU  Reference: U
2A, 500kHz Buck DC/DC Converter, adjustable output voltage, TSOT-23-6; ki_keywords: 2A Buck DC/DC; ki_fp_filters: TSOT?23*; Footprint: Package_TO_SOT_SMD:TSOT-23-6; Datasheet: https://www.diodes.com/assets/Datasheets/AP63200-AP63201-AP63203-AP63205.pdf; Description_: 2A, 500kHz Buck DC/DC Converter, adjustable output voltage, TSOT-23-6
pins: 1 FB, 2 EN, 3 IN, 4 GND, 5 SW, 6 BST

## AP63203WU
designator *  value AP63203WU  Reference: U
2A, 1.1MHz Buck DC/DC Converter, fixed 3.3V output voltage, TSOT-23-6; ki_keywords: 2A Buck DC/DC; ki_fp_filters: TSOT?23*; Footprint: Package_TO_SOT_SMD:TSOT-23-6; Datasheet: https://www.diodes.com/assets/Datasheets/AP63200-AP63201-AP63203-AP63205.pdf; Description_: 2A, 1.1MHz Buck DC/DC Converter, fixed 3.3V output voltage, TSOT-23-6
pins: 1 FB, 2 EN, 3 IN, 4 GND, 5 SW, 6 BST

## AP63205WU
designator *  value AP63205WU  Reference: U
2A, 1.1MHz Buck DC/DC Converter, fixed 5.0V output voltage, TSOT-23-6; ki_keywords: 2A Buck DC/DC; ki_fp_filters: TSOT?23*; Footprint: Package_TO_SOT_SMD:TSOT-23-6; Datasheet: https://www.diodes.com/assets/Datasheets/AP63200-AP63201-AP63203-AP63205.pdf; Description_: 2A, 1.1MHz Buck DC/DC Converter, fixed 5.0V output voltage, TSOT-23-6
pins: 1 FB, 2 EN, 3 IN, 4 GND, 5 SW, 6 BST

## AP65111AWU
designator *  value AP65111AWU  Reference: U
1.5A, 500kHz Buck DC/DC Converter, adjustable output voltage, TSOT-23-6; ki_keywords: 1.5A 500kHz PWM Buck DC/DC; ki_fp_filters: TSOT?23*; Footprint: Package_TO_SOT_SMD:TSOT-23-6; Datasheet: https://www.diodes.com/assets/Datasheets/AP65111A.pdf; Description_: 1.5A, 500kHz Buck DC/DC Converter, adjustable output voltage, TSOT-23-6
pins: 1 IN, 2 GND, 3 SW, 4 BST, 5 EN, 6 FB

## APE1707H-12-HF
designator *  value APE1707H-12-HF  Reference: U
2A, 150KHz PWM Buck DC/DC Converter, fixed 12.0V output voltage, TO-252-5 (D-PAK); ki_keywords: 12V 2A 150KHz PWM Buck DC/DC; ki_fp_filters: TO?252*TabPin3*; Footprint: Package_TO_SOT_SMD:TO-252-5_TabPin3; Datasheet: http://pdf.datasheet.live/datasheets-1/advanced_power_electronics/APE1707H-12-HF.pdf; Description_: 2A, 150KHz PWM Buck DC/DC Converter, fixed 12.0V output voltage, TO-252-5 (D-PAK)
pins: 1 VCC, 2 SW, 3 VSS, 4 FB, 5 ~{{EN}}

## APE1707H-33-HF
designator *  value APE1707H-33-HF  Reference: U
2A, 150KHz PWM Buck DC/DC Converter, fixed 3.3V output voltage, TO-252-5 (D-PAK); ki_keywords: 3.3V 2A 150KHz PWM Buck DC/DC; ki_fp_filters: TO?252*TabPin3*; Footprint: Package_TO_SOT_SMD:TO-252-5_TabPin3; Datasheet: http://pdf.datasheet.live/datasheets-1/advanced_power_electronics/APE1707H-12-HF.pdf; Description_: 2A, 150KHz PWM Buck DC/DC Converter, fixed 3.3V output voltage, TO-252-5 (D-PAK)
pins: 1 VCC, 2 SW, 3 VSS, 4 FB, 5 ~{{EN}}

## APE1707H-50-HF
designator *  value APE1707H-50-HF  Reference: U
2A, 150KHz PWM Buck DC/DC Converter, fixed 5.0V output voltage, TO-252-5 (D-PAK); ki_keywords: 5V 2A 150KHz PWM Buck DC/DC; ki_fp_filters: TO?252*TabPin3*; Footprint: Package_TO_SOT_SMD:TO-252-5_TabPin3; Datasheet: http://pdf.datasheet.live/datasheets-1/advanced_power_electronics/APE1707H-12-HF.pdf; Description_: 2A, 150KHz PWM Buck DC/DC Converter, fixed 5.0V output voltage, TO-252-5 (D-PAK)
pins: 1 VCC, 2 SW, 3 VSS, 4 FB, 5 ~{{EN}}

## APE1707H-HF
designator *  value APE1707H-HF  Reference: U
2A, 150KHz PWM Buck DC/DC Converter, adjustable output voltage, TO-252-5 (D-PAK); ki_keywords: Adjustable 2A 150KHz PWM Buck DC/DC; ki_fp_filters: TO?252*TabPin3*; Footprint: Package_TO_SOT_SMD:TO-252-5_TabPin3; Datasheet: http://pdf.datasheet.live/datasheets-1/advanced_power_electronics/APE1707H-12-HF.pdf; Description_: 2A, 150KHz PWM Buck DC/DC Converter, adjustable output voltage, TO-252-5 (D-PAK)
pins: 1 VCC, 2 SW, 3 VSS, 4 FB, 5 ~{{EN}}

## APE1707M-12-HF
designator *  value APE1707M-12-HF  Reference: U
2A, 150KHz PWM Buck DC/DC Converter, fixed 12.0V output voltage, SO-8; ki_keywords: 12V 2A 150KHz PWM Buck DC/DC; ki_fp_filters: SOIC*3.9x4.9mm*P1.27mm*; Footprint: Package_SO:SOIC-8_3.9x4.9mm_P1.27mm; Datasheet: http://files.remont-aud.net/baza/dc_dc/data/APE1707.pdf; Description_: 2A, 150KHz PWM Buck DC/DC Converter, fixed 12.0V output voltage, SO-8
pins: 1 VCC, 2 SW, 3 FB, 4 ~{{EN}}, 5 VSS, 6 VSS, 7 VSS, 8 VSS

## APE1707M-33-HF
designator *  value APE1707M-33-HF  Reference: U
2A, 150KHz PWM Buck DC/DC Converter, fixed 3.3V output voltage, SO-8; ki_keywords: 3.3V 2A 150KHz PWM Buck DC/DC; ki_fp_filters: SOIC*3.9x4.9mm*P1.27mm*; Footprint: Package_SO:SOIC-8_3.9x4.9mm_P1.27mm; Datasheet: http://files.remont-aud.net/baza/dc_dc/data/APE1707.pdf; Description_: 2A, 150KHz PWM Buck DC/DC Converter, fixed 3.3V output voltage, SO-8
pins: 1 VCC, 2 SW, 3 FB, 4 ~{{EN}}, 5 VSS, 6 VSS, 7 VSS, 8 VSS

## APE1707M-50-HF
designator *  value APE1707M-50-HF  Reference: U
2A, 150KHz PWM Buck DC/DC Converter, fixed 5.0V output voltage, SO-8; ki_keywords: 5V 2A 150KHz PWM Buck DC/DC; ki_fp_filters: SOIC*3.9x4.9mm*P1.27mm*; Footprint: Package_SO:SOIC-8_3.9x4.9mm_P1.27mm; Datasheet: http://files.remont-aud.net/baza/dc_dc/data/APE1707.pdf; Description_: 2A, 150KHz PWM Buck DC/DC Converter, fixed 5.0V output voltage, SO-8
pins: 1 VCC, 2 SW, 3 FB, 4 ~{{EN}}, 5 VSS, 6 VSS, 7 VSS, 8 VSS

## APE1707M-HF
designator *  value APE1707M-HF  Reference: U
2A, 150KHz PWM Buck DC/DC Converter, adjustable output voltage, SO-8; ki_keywords: Adjustable 2A 150KHz PWM Buck DC/DC; ki_fp_filters: SOIC*3.9x4.9mm*P1.27mm*; Footprint: Package_SO:SOIC-8_3.9x4.9mm_P1.27mm; Datasheet: http://files.remont-aud.net/baza/dc_dc/data/APE1707.pdf; Description_: 2A, 150KHz PWM Buck DC/DC Converter, adjustable output voltage, SO-8
pins: 1 VCC, 2 SW, 3 FB, 4 ~{{EN}}, 5 VSS, 6 VSS, 7 VSS, 8 VSS

## APE1707S-12-HF
designator *  value APE1707S-12-HF  Reference: U
2A, 150KHz PWM Buck DC/DC Converter, fixed 12.0V output voltage, TO-263-5 (DD-PAK); ki_keywords: 12V 2A 150KHz PWM Buck DC/DC; ki_fp_filters: TO?263*TabPin3*; Footprint: Package_TO_SOT_SMD:TO-263-5_TabPin3; Datasheet: http://pdf.datasheet.live/datasheets-1/advanced_power_electronics/APE1707S-12-HF.pdf; Description_: 2A, 150KHz PWM Buck DC/DC Converter, fixed 12.0V output voltage, TO-263-5 (DD-PAK)
pins: 1 VCC, 2 SW, 3 VSS, 4 FB, 5 ~{{EN}}

## APE1707S-33-HF
designator *  value APE1707S-33-HF  Reference: U
2A, 150KHz PWM Buck DC/DC Converter, fixed 3.3V output voltage, TO-263-5 (DD-PAK); ki_keywords: 3.3V 2A 150KHz PWM Buck DC/DC; ki_fp_filters: TO?263*TabPin3*; Footprint: Package_TO_SOT_SMD:TO-263-5_TabPin3; Datasheet: http://pdf.datasheet.live/datasheets-1/advanced_power_electronics/APE1707S-12-HF.pdf; Description_: 2A, 150KHz PWM Buck DC/DC Converter, fixed 3.3V output voltage, TO-263-5 (DD-PAK)
pins: 1 VCC, 2 SW, 3 VSS, 4 FB, 5 ~{{EN}}

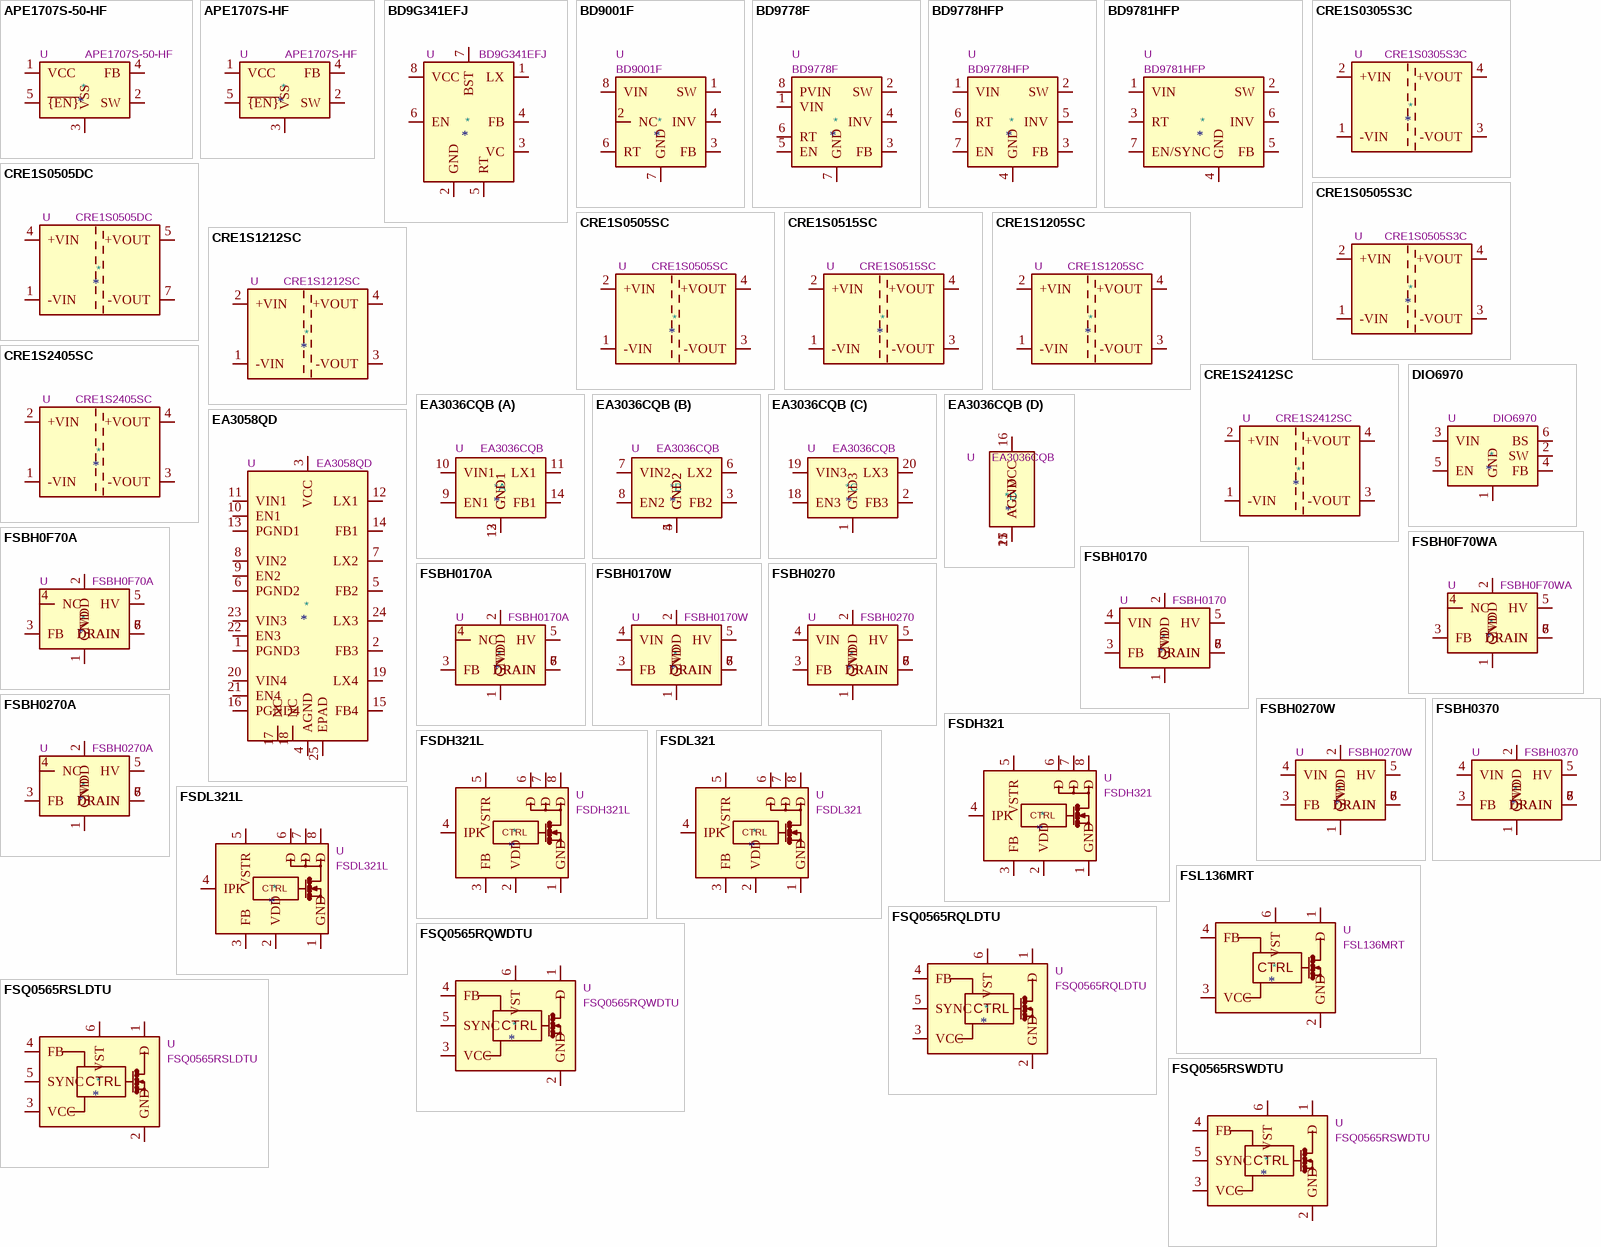
[diagram p2: symbols APE1707S-50-HF to FSQ0565RSWDTU]

## APE1707S-50-HF
designator *  value APE1707S-50-HF  Reference: U
2A, 150KHz PWM Buck DC/DC Converter, fixed 5.0V output voltage, TO-263-5 (DD-PAK); ki_keywords: 5V 2A 150KHz PWM Buck DC/DC; ki_fp_filters: TO?263*TabPin3*; Footprint: Package_TO_SOT_SMD:TO-263-5_TabPin3; Datasheet: http://pdf.datasheet.live/datasheets-1/advanced_power_electronics/APE1707S-12-HF.pdf; Description_: 2A, 150KHz PWM Buck DC/DC Converter, fixed 5.0V output voltage, TO-263-5 (DD-PAK)
pins: 1 VCC, 2 SW, 3 VSS, 4 FB, 5 ~{{EN}}

## APE1707S-HF
designator *  value APE1707S-HF  Reference: U
2A, 150KHz PWM Buck DC/DC Converter, adjustable output voltage, TO-263-5 (DD-PAK); ki_keywords: Adjustable 2A 150KHz PWM Buck DC/DC; ki_fp_filters: TO?263*TabPin3*; Footprint: Package_TO_SOT_SMD:TO-263-5_TabPin3; Datasheet: http://pdf.datasheet.live/datasheets-1/advanced_power_electronics/APE1707S-12-HF.pdf; Description_: 2A, 150KHz PWM Buck DC/DC Converter, adjustable output voltage, TO-263-5 (DD-PAK)
pins: 1 VCC, 2 SW, 3 VSS, 4 FB, 5 ~{{EN}}

## BD9G341EFJ
designator *  value BD9G341EFJ  Reference: U
12V-76V input voltage range 3A output current, Buck Converter, Integrated FET, HTSOP-8; ki_fp_filters: HTSOP*EP*3.9x4.9mm*P1.27mm*ThermalVias*; Footprint: Package_SO:HTSOP-8-1EP_3.9x4.9mm_P1.27mm_EP2.4x3.2mm_ThermalVias; Datasheet: https://media.digikey.com/pdf/Data%20Sheets/Rohm%20PDFs/BD9G341EFJ.pdf; Description_: 12V-76V input voltage range 3A output current, Buck Converter, Integrated FET, HTSOP-8; ki_keywords: Buck Converter
pins: 1 LX, 2 GND, 3 VC, 4 FB, 5 RT, 6 EN, 7 BST, 8 VCC

## BD9001F
designator *  value BD9001F  Reference: U
48V 2A, Flexible Step-Down Switching Regulator, SO-8; ki_keywords: DC-DC Step-Down Switching Regulator; ki_fp_filters: SOIC*3.9x4.9mm*P1.27mm*; Footprint: Package_SO:SOIC-8_3.9x4.9mm_P1.27mm; Datasheet: http://rohmfs.rohm.com/en/products/databook/datasheet/ic/power/switching_regulator/bd9778f-e.pdf; Description_: 48V 2A, Flexible Step-Down Switching Regulator, SO-8
pins: 1 SW, 2 NC, 3 FB, 4 INV, 6 RT, 7 GND, 8 VIN

## BD9778F
designator *  value BD9778F  Reference: U
35V 2A, Flexible Step-Down Switching Regulator, SO-8; ki_keywords: DC-DC Step-Down Switching Regulator; ki_fp_filters: SOIC*3.9x4.9mm*P1.27mm*; Footprint: Package_SO:SOIC-8_3.9x4.9mm_P1.27mm; Datasheet: http://rohmfs.rohm.com/en/products/databook/datasheet/ic/power/switching_regulator/bd9778f-e.pdf; Description_: 35V 2A, Flexible Step-Down Switching Regulator, SO-8
pins: 1 VIN, 2 SW, 3 FB, 4 INV, 5 EN, 6 RT, 7 GND, 8 PVIN

## BD9778HFP
designator *  value BD9778HFP  Reference: U
35V 2A, Flexible Step-Down Switching Regulator, HRP7; ki_keywords: DC-DC Step-Down Switching Regulator; ki_fp_filters: Rohm*HRP7*; Footprint: Package_TO_SOT_SMD:Rohm_HRP7; Datasheet: http://rohmfs.rohm.com/en/products/databook/datasheet/ic/power/switching_regulator/bd9778f-e.pdf; Description_: 35V 2A, Flexible Step-Down Switching Regulator, HRP7
pins: 1 VIN, 2 SW, 3 FB, 4 GND, 5 INV, 6 RT, 7 EN

## BD9781HFP
designator *  value BD9781HFP  Reference: U
35V 4A, Flexible Step-Down Switching Regulator, HRP7; ki_keywords: DC-DC Step-Down Switching Regulator; ki_fp_filters: Rohm*HRP7*; Footprint: Package_TO_SOT_SMD:Rohm_HRP7; Datasheet: http://rohmfs.rohm.com/en/products/databook/datasheet/ic/power/switching_regulator/bd9778f-e.pdf; Description_: 35V 4A, Flexible Step-Down Switching Regulator, HRP7
pins: 1 VIN, 2 SW, 3 RT, 4 GND, 5 FB, 6 INV, 7 EN/SYNC

## CRE1S0305S3C
designator *  value CRE1S0305S3C  Reference: U
3.3V to 5V 200mA, Isolated 2W Single-Output DC-DC Converter Modules with 3kV isolation, SIP-4; ki_keywords: Murata isolated isolation dc-dc converter transformer; ki_fp_filters: Converter*DCDC*Murata*CRE1xxxxxx3C*; Footprint: Converter_DCDC:Converter_DCDC_Murata_CRE1xxxxxx3C_THT; Datasheet: http://power.murata.com/datasheet?/data/power/ncl/kdc_cre1.pdf; Description_: 3.3V to 5V 200mA, Isolated 2W Single-Output DC-DC Converter Modules with 3kV isolation, SIP-4
pins: 1 -VIN, 2 +VIN, 3 -VOUT, 4 +VOUT

## CRE1S0505DC
designator *  value CRE1S0505DC  Reference: U
5V to 5V 200mA DC-DC Converter with 1kV isolation, DC-package; ki_keywords: Murata isolated isolation dc-dc converter transformer; ki_fp_filters: Converter*DCDC*Murata*CRE1xxxxxxDC*; Footprint: Converter_DCDC:Converter_DCDC_Murata_CRE1xxxxxxDC_THT; Datasheet: http://power.murata.com/datasheet?/data/power/ncl/kdc_cre1.pdf; Description_: 5V to 5V 200mA DC-DC Converter with 1kV isolation, DC-package
pins: 1 -VIN, 4 +VIN, 5 +VOUT, 7 -VOUT

## CRE1S0505S3C
designator *  value CRE1S0505S3C  Reference: U
5V to 5V 200mA, Isolated 2W Single-Output DC-DC Converter Modules with 3kV isolation, SIP-4; ki_keywords: Murata isolated isolation dc-dc converter transformer; ki_fp_filters: Converter*DCDC*Murata*CRE1xxxxxx3C*; Footprint: Converter_DCDC:Converter_DCDC_Murata_CRE1xxxxxx3C_THT; Datasheet: http://power.murata.com/datasheet?/data/power/ncl/kdc_cre1.pdf; Description_: 5V to 5V 200mA, Isolated 2W Single-Output DC-DC Converter Modules with 3kV isolation, SIP-4
pins: 1 -VIN, 2 +VIN, 3 -VOUT, 4 +VOUT

## CRE1S0505SC
designator *  value CRE1S0505SC  Reference: U
5V to 5V 200mA DC-DC Converter with 1kV isolation, SIP-4; ki_keywords: Murata isolated isolation dc-dc converter transformer; ki_fp_filters: Converter*DCDC*Murata*CRE1xxxxxxSC*; Footprint: Converter_DCDC:Converter_DCDC_Murata_CRE1xxxxxxSC_THT; Datasheet: http://power.murata.com/datasheet?/data/power/ncl/kdc_cre1.pdf; Description_: 5V to 5V 200mA DC-DC Converter with 1kV isolation, SIP-4
pins: 1 -VIN, 2 +VIN, 3 -VOUT, 4 +VOUT

## CRE1S0515SC
designator *  value CRE1S0515SC  Reference: U
15V to 5V 67mA DC-DC Converter with 1kV isolation, SIP-4; ki_keywords: Murata isolated isolation dc-dc converter transformer; ki_fp_filters: Converter*DCDC*Murata*CRE1xxxxxxSC*; Footprint: Converter_DCDC:Converter_DCDC_Murata_CRE1xxxxxxSC_THT; Datasheet: http://power.murata.com/datasheet?/data/power/ncl/kdc_cre1.pdf; Description_: 15V to 5V 67mA DC-DC Converter with 1kV isolation, SIP-4
pins: 1 -VIN, 2 +VIN, 3 -VOUT, 4 +VOUT

## CRE1S1205SC
designator *  value CRE1S1205SC  Reference: U
12V to 5V 200mA DC-DC Converter with 1kV isolation, SIP-4; ki_keywords: Murata isolated isolation dc-dc converter transformer; ki_fp_filters: Converter*DCDC*Murata*CRE1xxxxxxSC*; Footprint: Converter_DCDC:Converter_DCDC_Murata_CRE1xxxxxxSC_THT; Datasheet: http://power.murata.com/datasheet?/data/power/ncl/kdc_cre1.pdf; Description_: 12V to 5V 200mA DC-DC Converter with 1kV isolation, SIP-4
pins: 1 -VIN, 2 +VIN, 3 -VOUT, 4 +VOUT

## CRE1S1212SC
designator *  value CRE1S1212SC  Reference: U
12V to 12V 83mA DC-DC Converter with 1kV isolation, SIP-4; ki_keywords: Murata isolated isolation dc-dc converter transformer; ki_fp_filters: Converter*DCDC*Murata*CRE1xxxxxxSC*; Footprint: Converter_DCDC:Converter_DCDC_Murata_CRE1xxxxxxSC_THT; Datasheet: http://power.murata.com/datasheet?/data/power/ncl/kdc_cre1.pdf; Description_: 12V to 12V 83mA DC-DC Converter with 1kV isolation, SIP-4
pins: 1 -VIN, 2 +VIN, 3 -VOUT, 4 +VOUT

## CRE1S2405SC
designator *  value CRE1S2405SC  Reference: U
24V to 5V 200mA DC-DC Converter with 1kV isolation, SIP-4; ki_keywords: Murata isolated isolation dc-dc converter transformer; ki_fp_filters: Converter*DCDC*Murata*CRE1xxxxxxSC*; Footprint: Converter_DCDC:Converter_DCDC_Murata_CRE1xxxxxxSC_THT; Datasheet: http://power.murata.com/datasheet?/data/power/ncl/kdc_cre1.pdf; Description_: 24V to 5V 200mA DC-DC Converter with 1kV isolation, SIP-4
pins: 1 -VIN, 2 +VIN, 3 -VOUT, 4 +VOUT

## CRE1S2412SC
designator *  value CRE1S2412SC  Reference: U
24V to 12V 83mA DC-DC Converter with 1kV isolation, SIP-4; ki_keywords: Murata isolated isolation dc-dc converter transformer; ki_fp_filters: Converter*DCDC*Murata*CRE1xxxxxxSC*; Footprint: Converter_DCDC:Converter_DCDC_Murata_CRE1xxxxxxSC_THT; Datasheet: http://power.murata.com/datasheet?/data/power/ncl/kdc_cre1.pdf; Description_: 24V to 12V 83mA DC-DC Converter with 1kV isolation, SIP-4
pins: 1 -VIN, 2 +VIN, 3 -VOUT, 4 +VOUT